# EAGLE library part NLSX3018 (library isystems)
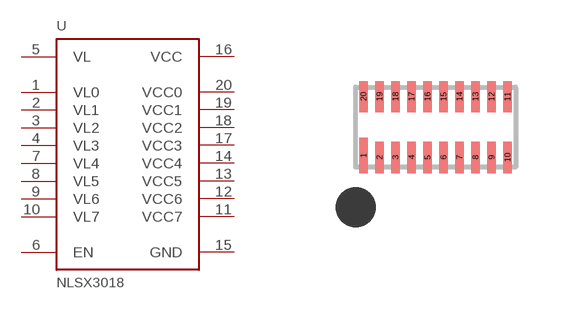
[diagram p10: symbol with the pads of UDFN20; footprint UDFN20]

Designator prefix U

## NLSX3018  [UDFN20]
1  VL0
2  VL1
3  VL2
4  VL3
5  VL  pwr
6  EN
7  VL4
8  VL5
9  VL6
10  VL7
11  VCC7
12  VCC6
13  VCC5
14  VCC4
15  GND  pwr
16  VCC  pwr
17  VCC3
18  VCC2
19  VCC1
20  VCC0

## Footprint UDFN20 (pad centres in mm)
smd 0.22 x 0.88: 1 -1.8,-0.71
smd 0.22 x 0.78: 2 -1.4,-0.76; 3 -1,-0.76; 4 -0.6,-0.76; 5 -0.2,-0.76; 6 0.2,-0.76; 7 0.6,-0.76; 8 1,-0.76; 9 1.4,-0.76; 10 1.8,-0.76; 11 1.8,0.76; 12 1.4,0.76; 13 1,0.76; 14 0.6,0.76; 15 0.2,0.76; 16 -0.2,0.76; 17 -0.6,0.76; 18 -1,0.76; 19 -1.4,0.76; 20 -1.8,0.76